# EAGLE library part 74HC2G04 (library crasbe)
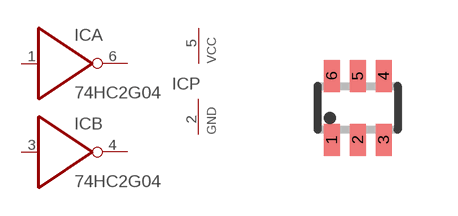
[diagram p30: symbol with the pads of SOT363_PHILIPPS; footprint SOT363_PHILIPPS]

Designator prefix IC; gates A=7404 B=7404 P=VCC1GND1

## 74HC2G04GW  [SOT363_PHILIPPS]
1  A:I  in
2  P:GND  pwr
3  B:I  in
4  B:O  out
5  P:VCC  pwr
6  A:O  out

## Footprint SOT363_PHILIPPS (pad centres in mm)
smd 0.4 x 0.8: 1 -0.65,-0.8; 2 0,-0.8; 3 0.65,-0.8; 4 0.65,0.8; 5 0,0.8; 6 -0.65,0.8